# Altium footprint library Coilcraft.PcbLib: 1 footprints
Each footprint in its own frame and in the unit in brackets; x right, y up, seen from the top. Pads: shape width x height; smd on the part's side, far side on the other; paste and mask are expansions set on the pad; w line width, h text height; cw(c..) or ccw(c..) is an arc to the next point about the centre after c.
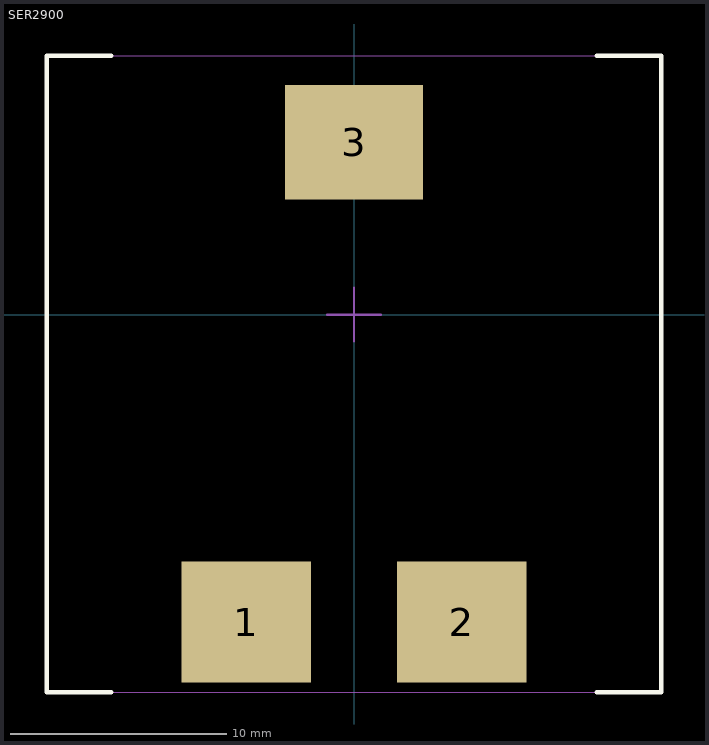
[diagram p0: the footprint, top view; thin cyan lines are the x and y axes]

## SER2900 [mm] "Power Inductor, shielded"
height 15.4
pads (3):
  rect 6x5.6 smd: 1(-5,-14.25) 2(5,-14.25)
  rect 6.4x5.3 smd: 3(0,8)
Top Overlay:
  lines w0.2: -11.25,-17.5 -14.25,-17.5 -14.25,12 -11.25,12 ; 11.25,-17.5 14.25,-17.5 14.25,12 11.25,12
Mechanical 15:
  lines w0.05: -14.25,-17.5 -14.25,12 14.25,12 14.25,-17.5 -14.25,-17.5
  lines w0.1: -1.25,0 1.25,0 ; 0,-1.25 0,1.25
3D body "Coilcraft-SER2915H.STEP": height 15.5, standoff 0.14, extent -13.951,-16.301 13.951,11.64